# Altium footprint library TEP-AltiumLib-Passives.PcbLib: 21 footprints (part 2 of 2)
Each footprint in its own frame and in the unit in brackets; x right, y up, seen from the top. Pads: shape width x height; smd on the part's side, far side on the other; paste and mask are expansions set on the pad; w line width, h text height; cw(c..) or ccw(c..) is an arc to the next point about the centre after c.
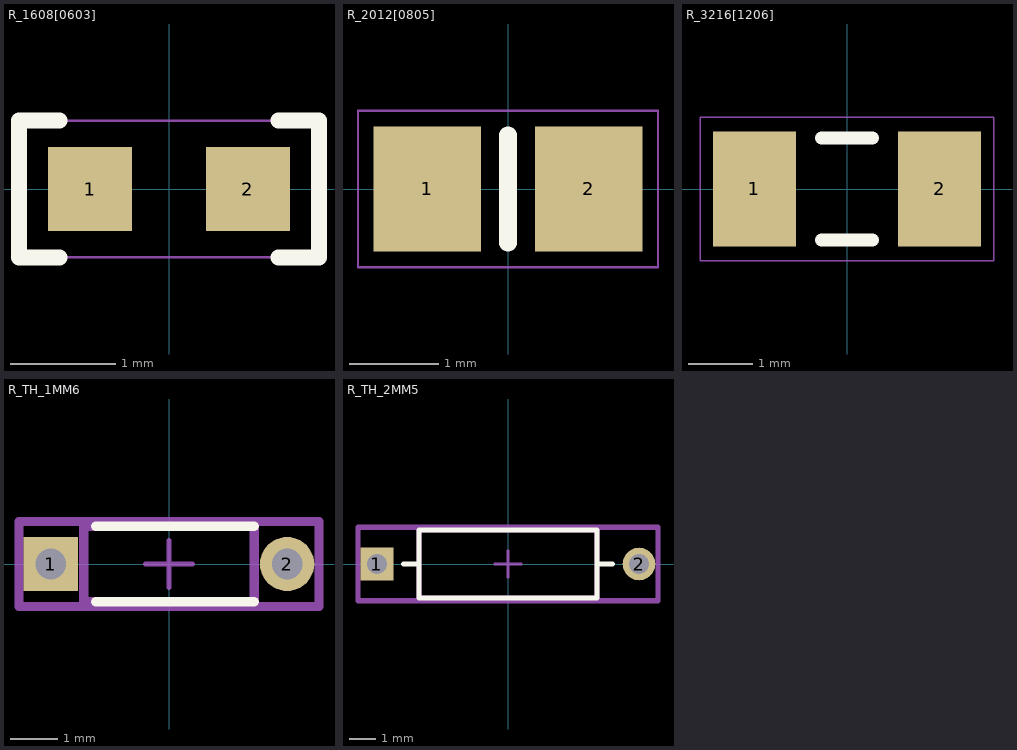
[diagram p1: the footprints below, top view; thin cyan lines are the x and y axes]

## R_1608[0603] [mm] "Chip Resistor; Body 1.6 x 0.8 mm (LxW typ)"
height 0.55
pads (2):
  rect 0.8x0.8 smd: 1(-0.75,0) 2(0.75,0)
Top Overlay:
  lines w0.15: -1.041,-0.65 -1.425,-0.65 -1.425,0.65 -1.041,0.65 ; 1.041,-0.65 1.425,-0.65 1.425,0.65 1.041,0.65
Top Courtyard:
  lines w0.025: -1.4,0.65 -1.4,-0.65 1.375,-0.65 1.375,0.65 -1.375,0.65
Top Designator:
  text ".Designator" at -2.49,-0.213 h1.5
3D body "User Library-RESC1608X05N.STEP": height 0.45, standoff 0, extent -0.775,-0.425 0.775,0.425

## R_2012[0805] [mm] "Chip Resistor, Body 2.0x1.3mm, IPC Medium Density"
height 0.65
pads (2):
  rect 1.2x1.4 smd: 1(-0.9,0) 2(0.9,0)
Top Overlay:
  lines w0.2: 0,-0.6 0,0.6
Top Courtyard:
  lines w0.025: -1.675,-0.875 1.675,-0.875 1.675,0.875 -1.675,0.875 -1.675,-0.875
Top Designator:
  text ".Designator" at -2.49,-0.213 h1.5
3D body "User Library-RESC2012X05N.STEP": height 0.45, standoff 0, extent -1,-0.625 1,0.625

## R_3216[1206] [mm] "Chip Resistor, Body 3.2x1.6mm, IPC Medium Density"
height 0.71
pads (2):
  rect 1.3x1.8 smd: 1(-1.45,0) 2(1.45,0)
Top Overlay:
  lines w0.2: -0.4,-0.8 0.4,-0.8 ; -0.4,0.8 0.4,0.8
Top Courtyard:
  lines w0.025: -2.3,-1.125 -2.3,1.125 2.3,1.125 2.3,-1.125 -2.3,-1.125
Top Designator:
  text ".Designator" at -2.49,-0.213 h1.5
3D body "User Library-RESC3216X06N.STEP": height 0.55, standoff 0, extent -1.6,-0.8 1.6,0.8

## R_TH_1MM6 [mm]
height 0.01
pads (2):
  rect 1.15x1.15 hole 0.65 paste-2539.97 mask+0: 1(-2.5,0)
  round 1.15 hole 0.65 paste-2539.97 mask+0: 2(2.5,0)
Top Overlay:
  lines w0.2: -1.55,-0.8 1.8,-0.8 ; -1.55,0.8 1.8,0.8
Top Component Center:
  lines w0.1: -0.5,0 0.5,0 ; 0,-0.5 0,0.5
Top Courtyard:
  lines w0.2: -3.175,-0.9 3.175,-0.9 3.175,0.9 -3.175,0.9 -3.175,-0.9
Top Assembly:
  lines w0.2: -3.175,-0.9 3.175,-0.9 3.175,0.9 -3.175,0.9 -3.175,-0.9
  text ".Designator" at 0,0.187 h1
Top 3D Body:
  lines w0.2: -1.8,-0.8 1.8,-0.8 1.8,0.8 -1.8,0.8 -1.8,-0.8
3D body "Res_Vishay_MRS16000C2002FCT00_eec.STEP": height 0.25, standoff 0, extent -3.175,-0.9 3.175,0.9

## R_TH_2MM5 [mm]
height 2.5
pads (2):
  rect 1.25x1.25 hole 0.75 paste-2539.97 mask+0: 1(-5,0)
  round 1.25 hole 0.75 paste-2539.97 mask+0: 2(5,0)
Top Overlay:
  lines w0.2: -3.975,0 -3.4,0 ; 3.4,0 3.975,0 ; -3.4,-1.3 3.4,-1.3 3.4,1.3 -3.4,1.3 -3.4,-1.3
Top Component Center:
  lines w0.1: -0.5,0 0.5,0 ; 0,-0.5 0,0.5
Top Courtyard:
  lines w0.2: -5.725,-1.4 5.725,-1.4 5.725,1.4 -5.725,1.4 -5.725,-1.4
Top Assembly:
  lines w0.2: -5.725,-1.4 5.725,-1.4 5.725,1.4 -5.725,1.4 -5.725,-1.4
  text ".Designator" at 0,0.187 h1
Top 3D Body:
  lines w0.2: -3.4,-1.3 3.4,-1.3 3.4,1.3 -3.4,1.3 -3.4,-1.3
3D body "Res_Yageo_MFR-25FBF52-1K18_eec.STEP": height 0.25, standoff 0, extent -5.725,-1.4 5.725,1.4